# Altium schematic symbol library 0805_cap_sch.SchLib: 2 symbols
Pins are listed as number, name and electrical type; pins without a type are passive.

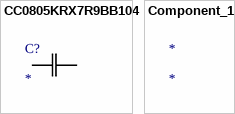
[diagram p0: symbols CC0805KRX7R9BB104 to Component_1]

## CC0805KRX7R9BB104
designator C?
No Description Available; Mfr_Name: Yageo
footprint CC0805N_YAG
pins: 1, 2

## Component_1
designator *